# EAGLE library part ATMEGA_328 (library ERIC)
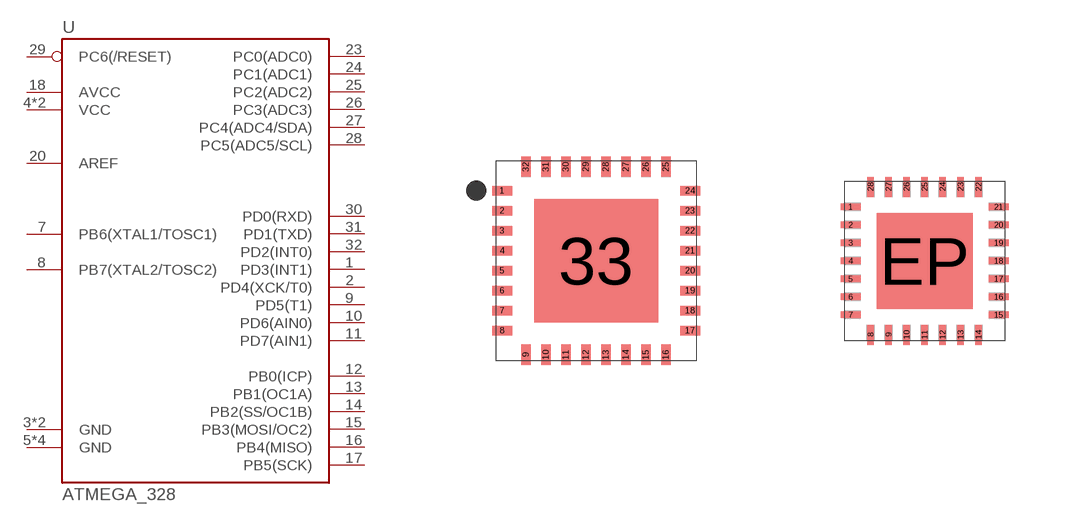
[diagram p16: symbol with the pads of QFN32_ATMEL_32M1-A; footprints QFN32_ATMEL_32M1-A, QFN_ATMEL28M1]

Designator prefix U

## ATMEGA_32832-PIN_QFN  [QFN32_ATMEL_32M1-A]
1  PD3(INT1)
2  PD4(XCK/T0)
3  GND
4  VCC
5  GND
6  VCC
7  PB6(XTAL1/TOSC1)
8  PB7(XTAL2/TOSC2)
9  PD5(T1)
10  PD6(AIN0)
11  PD7(AIN1)
12  PB0(ICP)
13  PB1(OC1A)
14  PB2(SS/OC1B)
15  PB3(MOSI/OC2)
16  PB4(MISO)
17  PB5(SCK)
18  AVCC
19  GND
20  AREF
21  GND
22  GND
23  PC0(ADC0)
24  PC1(ADC1)
25  PC2(ADC2)
26  PC3(ADC3)
27  PC4(ADC4/SDA)
28  PC5(ADC5/SCL)
29  PC6(/RESET)
30  PD0(RXD)
31  PD1(TXD)
32  PD2(INT0)
33  GND

## ATMEGA_328  [QFN_ATMEL28M1]
1  PD3(INT1)
2  PD4(XCK/T0)
3  VCC
4  GND
5  PB6(XTAL1/TOSC1)
6  PB7(XTAL2/TOSC2)
7  PD5(T1)
8  PD6(AIN0)
9  PD7(AIN1)
10  PB0(ICP)
11  PB1(OC1A)
12  PB2(SS/OC1B)
13  PB3(MOSI/OC2)
14  PB4(MISO)
15  PB5(SCK)
16  AVCC
17  AREF
18  GND
19  PC0(ADC0)
20  PC1(ADC1)
21  PC2(ADC2)
22  PC3(ADC3)
23  PC4(ADC4/SDA)
24  PC5(ADC5/SCL)
25  PC6(/RESET)
26  PD0(RXD)
27  PD1(TXD)
28  PD2(INT0)
EP  GND

## Footprint QFN32_ATMEL_32M1-A (pad centres in mm)
32-pad QFN 5x5mm land pattern mostly from the Micrel drawing #QFN55-32LD-PL-1. This is (hopefully) for the Atmel ATMega328P processor.
smd 0.5 x 0.23: 1 -2.35,1.75; 2 -2.35,1.25; 3 -2.35,0.75; 4 -2.35,0.25; 5 -2.35,-0.25; 6 -2.35,-0.75; 7 -2.35,-1.25; 8 -2.35,-1.75; 17 2.35,-1.75; 18 2.35,-1.25; 19 2.35,-0.75; 20 2.35,-0.25; 21 2.35,0.25; 22 2.35,0.75; 23 2.35,1.25; 24 2.35,1.75
smd 0.23 x 0.5: 9 -1.75,-2.35; 10 -1.25,-2.35; 11 -0.75,-2.35; 12 -0.25,-2.35; 13 0.25,-2.35; 14 0.75,-2.35; 15 1.25,-2.35; 16 1.75,-2.35; 25 1.75,2.35; 26 1.25,2.35; 27 0.75,2.35; 28 0.25,2.35; 29 -0.25,2.35; 30 -0.75,2.35; 31 -1.25,2.35; 32 -1.75,2.35
smd 3.1 x 3.1: 33 0,0

## Footprint QFN_ATMEL28M1 (pad centres in mm)
28m1, 28-pad, 4x5x1.0mm Body, Lead Pitch 0.45mm, 2.4x2.4mm exposed pad from ATMEL AtMega328 datasheet
smd 0.5 x 0.17: 1 -1.85,1.35; 2 -1.85,0.9; 3 -1.85,0.45; 4 -1.85,0; 5 -1.85,-0.45; 6 -1.85,-0.9; 7 -1.85,-1.35; 15 1.85,-1.35; 16 1.85,-0.9; 17 1.85,-0.45; 18 1.85,0; 19 1.85,0.45; 20 1.85,0.9; 21 1.85,1.35
smd 0.17 x 0.5: 8 -1.35,-1.85; 9 -0.9,-1.85; 10 -0.45,-1.85; 11 0,-1.85; 12 0.45,-1.85; 13 0.9,-1.85; 14 1.35,-1.85; 22 1.35,1.85; 23 0.9,1.85; 24 0.45,1.85; 25 0,1.85; 26 -0.45,1.85; 27 -0.9,1.85; 28 -1.35,1.85
smd 2.4 x 2.4: EP 0,0